# Altium schematic symbol library BGS13S4N9.SchLib: 1 symbol
Pins are listed as number, name and electrical type; pins without a type are passive.

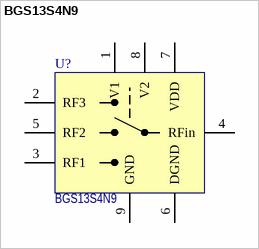
[diagram p0: symbol BGS13S4N9]

## BGS13S4N9
designator U?
Wideband RF SP3T Switch; Internal_Part_Number: MCD-02018; Part_Type: IC; Manufacturer: INFINEON; ECCN_US: EAR99; ECCN_EU: tbd; Provided_By: SUBCO; Потребление, Вт: 0.001; Status: Checked; Manufacturer_Part_Number: BGS13S4N9; Package: TSNP-9-3; ComponentLink1Description: Datasheet; ComponentLink1URL: http://tunmcdsvn.tun.st.com/Component_Datasheet_Library/Trunk/IC/Infineon_SP3T_BGS13S4N9/Infineon-BGS13S4N9-DS-v01_00-EN.pdf; Value: BGS13S4N9; Назначение: Wideband RF SP3T Switch; Наименование: BGS13S4N9
footprint TSNP-9-3 (1.1x1.1x0.375)
pins: 1 V1, 2 RF3, 3 RF1, 4 RFin, 5 RF2, 6 DGND, 7 VDD, 8 V2, 9 GND